# EAGLE library part PEC11R-4220F-S0024 (library PEC11R-4220F-S0024)
Bourns 24 Pulse Incremental Mechanical Rotary Encoder with a 6 mm Flat Shaft (Not Indexed), Through Hole Source: Datasheet <https://www.bourns.com/docs/Product-Datasheets/PEC11R.pdf>
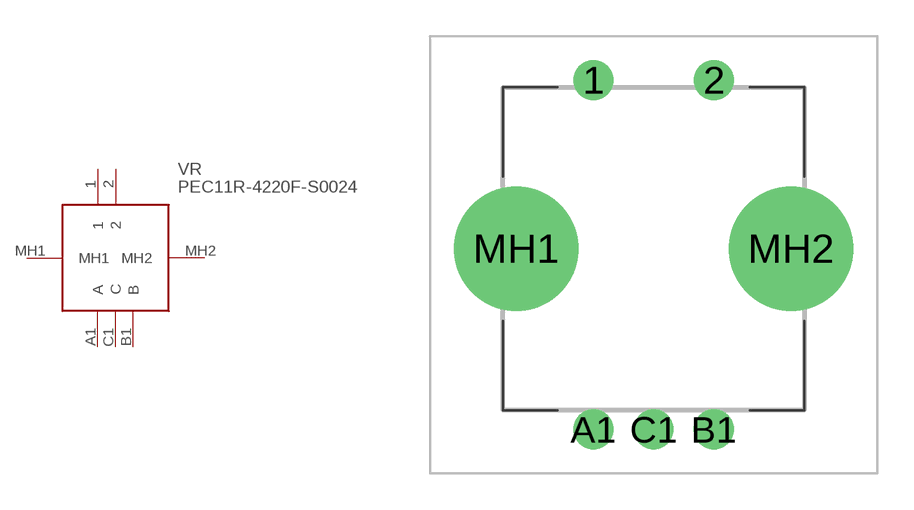
[diagram p0: symbol with the pads of PEC11R4220FS0024; footprint PEC11R4220FS0024]

Designator prefix VR

## PEC11R-4220F-S0024 (Arrow_Part_Number: PEC11R-4220F-S0024; Arrow_Price-Stock: https://www.arrow.com/en/products/pec11r-4220f-s0024/bourns?utm_currency=USD&region=nac; Description: Bourns 24 Pulse Incremental Mechanical Rotary Encoder with a 6 mm Flat Shaft (Not Indexed), Through Hole; Height: 27.5mm; Manufacturer_Name: Bourns; Manufacturer_Part_Number: PEC11R-4220F-S0024; Mouser_Part_Number: 652-PEC11R-4220F-S24; Mouser_Price-Stock: https://www.mouser.co.uk/ProductDetail/Bourns/PEC11R-4220F-S0024?qs=Zq5ylnUbLm6NGsQdib%2Ffbw%3D%3D)  [PEC11R4220FS0024]
1  1
2  2
A1  A
B1  B
C1  C
MH1  MH1
MH2  MH2

## Footprint PEC11R4220FS0024 (pad centres in mm)
PEC11R-4220F-S0024-2
drill 1.1 pad 1.65: 1 0,0; 2 5,0; A1 0,-14.5; B1 5,-14.5; C1 2.5,-14.5
drill 3.441 pad 5.161: MH1 -3.2,-7; MH2 8.2,-7